# Altium footprint library Bourns-TrimmerPotentiometers.PcbLib: 1 footprints
Each footprint in its own frame and in the unit in brackets; x right, y up, seen from the top. Pads: shape width x height; smd on the part's side, far side on the other; paste and mask are expansions set on the pad; w line width, h text height; cw(c..) or ccw(c..) is an arc to the next point about the centre after c.
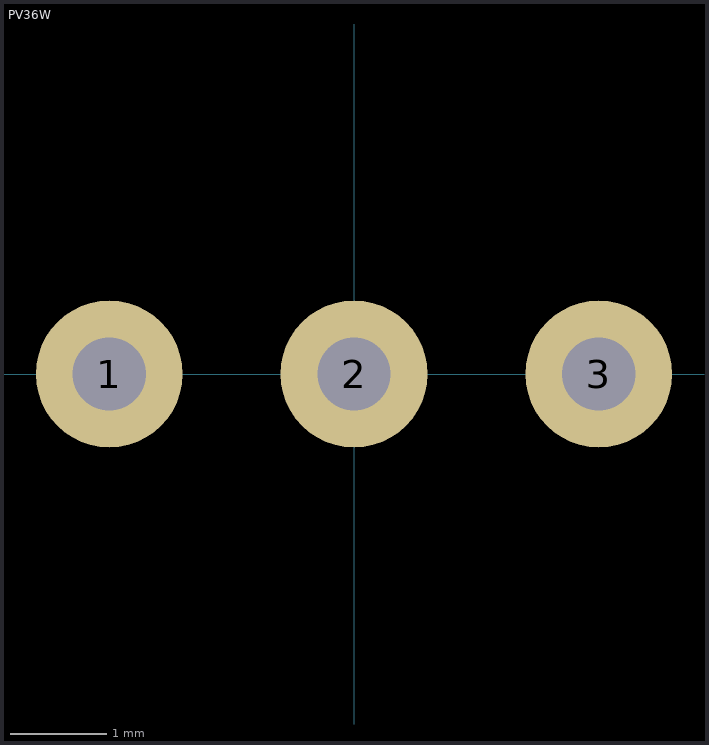
[diagram p0: the footprint, top view; thin cyan lines are the x and y axes]

## PV36W [mil]
pads (3):
  round 60 hole 30: 1(-100,0) 2(0,0) 3(100,0)
3D body: height 10, standoff 0, extent 0,0 0,0
3D body "POT_PV36W.stp": height 409.02, standoff -250, extent -189.01,-97.99 189.02,99.02